# Altium integrated library 12061C225K4T2A.IntLib: 1 symbol
Pins are listed as number, name and electrical type; pins without a type are passive.

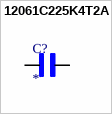
[diagram p0: symbol 12061C225K4T2A]

## 12061C225K4T2A
designator C?
2.2 ÂµF Â±10% 100V Ceramic Capacitor X7R 1206 (3216 Metric); MF: AVX; MP: 12061C225K4T2A; SnapEDA_Link: https://www.snapeda.com/parts/12061C225K4T2A/AVX/view-part/?ref=snap; Package: 3216 AVX; Value: *; Check_prices: https://www.snapeda.com/parts/12061C225K4T2A/AVX/view-part/?ref=eda
footprint CAPC3216X178N
pins: 1, 2